# Altium footprint library Package_SO.PcbLib: 393 footprints (part 13 of 25)
Each footprint in its own frame and in the unit in brackets; x right, y up, seen from the top. Pads: shape width x height; smd on the part's side, far side on the other; paste and mask are expansions set on the pad; w line width, h text height; cw(c..) or ccw(c..) is an arc to the next point about the centre after c.
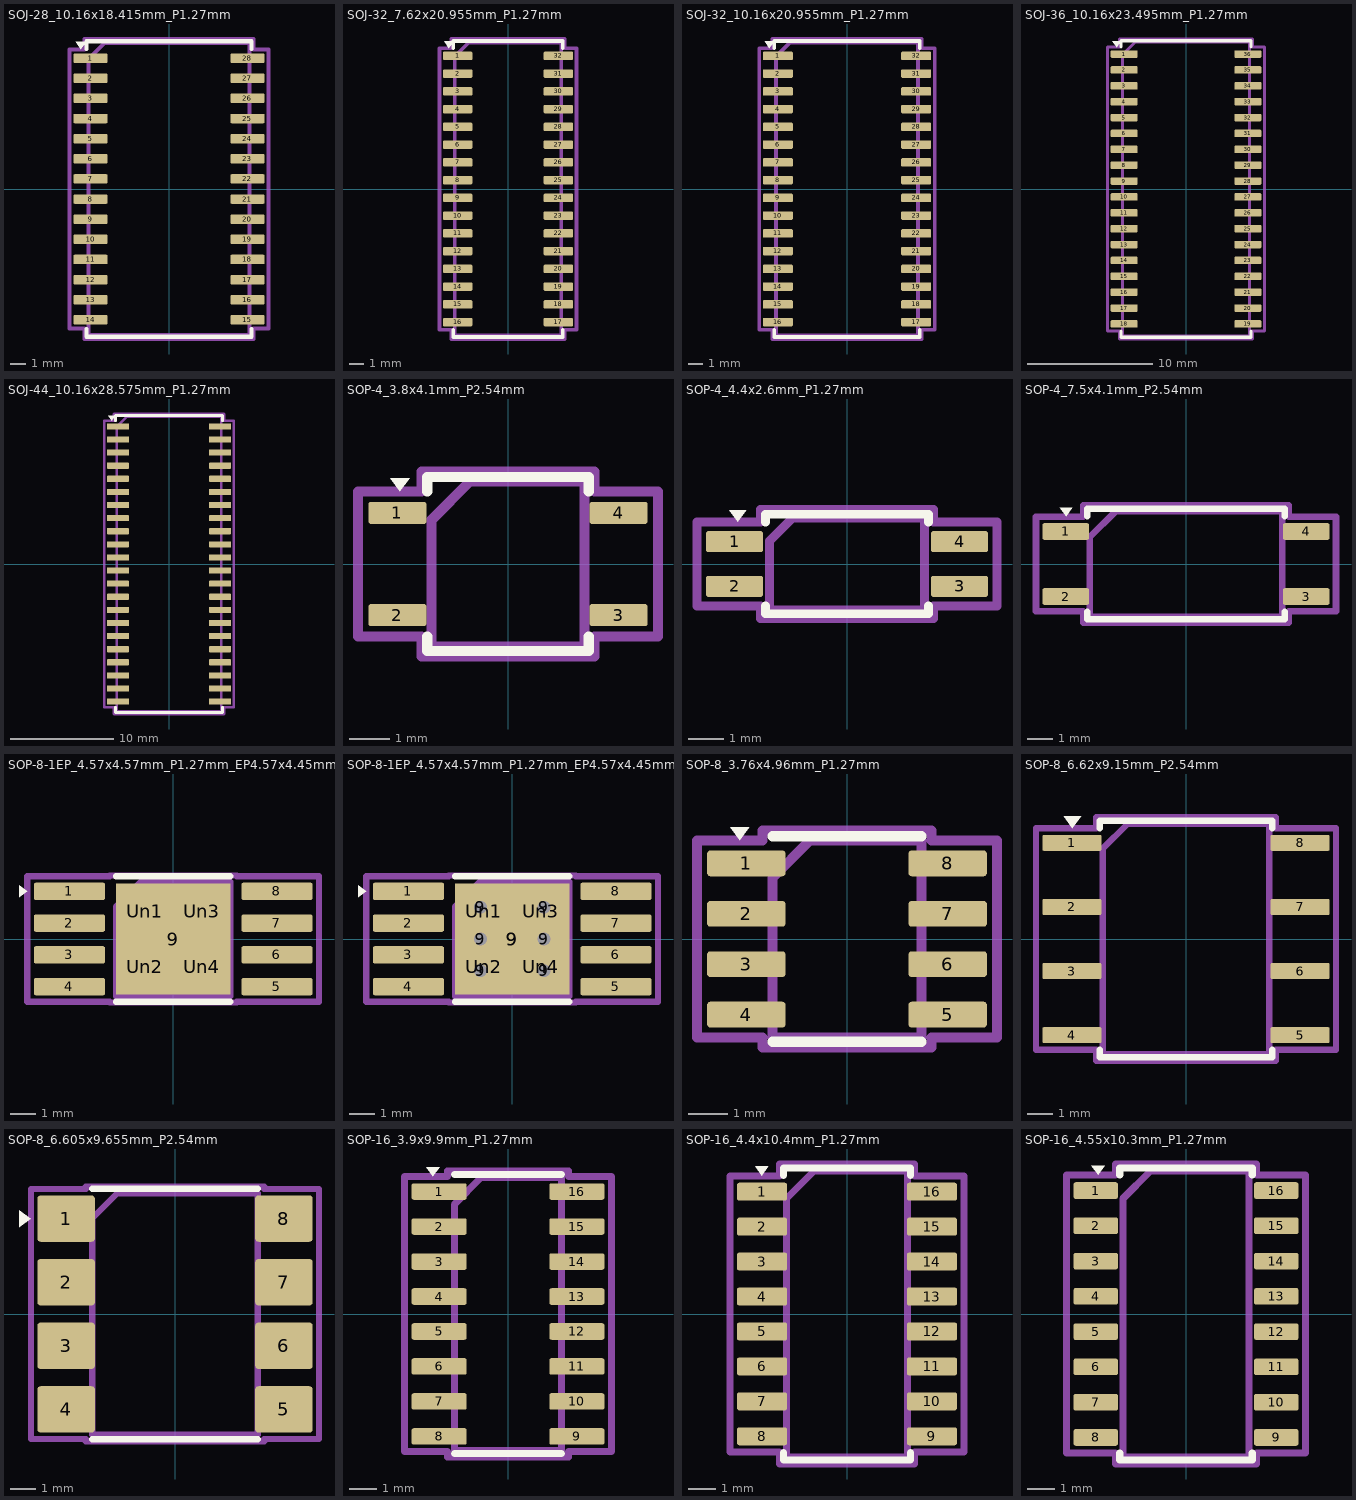
[diagram p12: the footprints below, top view; thin cyan lines are the x and y axes]

## SOJ-28_10.16x18.415mm_P1.27mm [mm]
pads (28):
  rrect25% 2.15x0.6 smd: 1(-4.95,8.255) 2(-4.95,6.985) 3(-4.95,5.715) 4(-4.95,4.445) 5(-4.95,3.175) 6(-4.95,1.905) 7(-4.95,0.635) 8(-4.95,-0.635) 9(-4.95,-1.905) 10(-4.95,-3.175) 11(-4.95,-4.445) 12(-4.95,-5.715) 13(-4.95,-6.985) 14(-4.95,-8.255) 15(4.95,-8.255) 16(4.95,-6.985) 17(4.95,-5.715) 18(4.95,-4.445) 19(4.95,-3.175) 20(4.95,-1.905) 21(4.95,-0.635) 22(4.95,0.635) 23(4.95,1.905) 24(4.95,3.175) 25(4.95,4.445) 26(4.95,5.715) 27(4.95,6.985) 28(4.95,8.255)
F.SilkS:
  region: -5.553,8.815 -5.893,9.285 -5.212,9.285
  lines w0.254: -5.19,-8.815 -5.19,-9.317 0,-9.317 5.19,-9.317 5.19,-8.815 ; -5.19,8.815 -5.19,9.317 0,9.317 5.19,9.317 5.19,8.815
Top Assembly:
  lines w0.254: -5.08,-9.207 5.08,-9.207 5.08,9.207 -4.08,9.207 -5.08,8.207 -5.08,-9.207
  text "'.Designator'" at -4.047,-0.84 h1
Top Courtyard:
  lines w0.254: -6.28,-8.81 -5.33,-8.81 -5.33,-9.46 5.33,-9.46 5.33,-8.81 6.28,-8.81 6.28,8.81 5.33,8.81 5.33,9.46 -5.33,9.46 -5.33,8.81 -6.28,8.81 -6.28,-8.81
Top Designator:
  text ".Designator" at -7.618,-0.508 h1.52

## SOJ-32_7.62x20.955mm_P1.27mm [mm]
pads (32):
  rrect25% 2.1x0.6 smd: 1(-3.6,9.525) 2(-3.6,8.255) 3(-3.6,6.985) 4(-3.6,5.715) 5(-3.6,4.445) 6(-3.6,3.175) 7(-3.6,1.905) 8(-3.6,0.635) 9(-3.6,-0.635) 10(-3.6,-1.905) 11(-3.6,-3.175) 12(-3.6,-4.445) 13(-3.6,-5.715) 14(-3.6,-6.985) 15(-3.6,-8.255) 16(-3.6,-9.525) 17(3.6,-9.525) 18(3.6,-8.255) 19(3.6,-6.985) 20(3.6,-5.715) 21(3.6,-4.445) 22(3.6,-3.175) 23(3.6,-1.905) 24(3.6,-0.635) 25(3.6,0.635) 26(3.6,1.905) 27(3.6,3.175) 28(3.6,4.445) 29(3.6,5.715) 30(3.6,6.985) 31(3.6,8.255) 32(3.6,9.525)
F.SilkS:
  region: -4.23,10.085 -4.57,10.555 -3.89,10.555
  lines w0.254: -3.92,-10.085 -3.92,-10.587 0,-10.587 3.92,-10.587 3.92,-10.085 ; -3.92,10.085 -3.92,10.587 0,10.587 3.92,10.587 3.92,10.085
Top Assembly:
  lines w0.254: -3.81,-10.477 3.81,-10.477 3.81,10.477 -2.81,10.477 -3.81,9.477 -3.81,-10.477
  text "'.Designator'" at -4.047,-0.84 h1
Top Courtyard:
  lines w0.254: -4.9,-10.08 -4.06,-10.08 -4.06,-10.73 4.06,-10.73 4.06,-10.08 4.9,-10.08 4.9,10.08 4.06,10.08 4.06,10.73 -4.06,10.73 -4.06,10.08 -4.9,10.08 -4.9,-10.08
Top Designator:
  text ".Designator" at -7.618,-0.508 h1.52

## SOJ-32_10.16x20.955mm_P1.27mm [mm]
pads (32):
  rrect25% 2.15x0.6 smd: 1(-4.95,9.525) 2(-4.95,8.255) 3(-4.95,6.985) 4(-4.95,5.715) 5(-4.95,4.445) 6(-4.95,3.175) 7(-4.95,1.905) 8(-4.95,0.635) 9(-4.95,-0.635) 10(-4.95,-1.905) 11(-4.95,-3.175) 12(-4.95,-4.445) 13(-4.95,-5.715) 14(-4.95,-6.985) 15(-4.95,-8.255) 16(-4.95,-9.525) 17(4.95,-9.525) 18(4.95,-8.255) 19(4.95,-6.985) 20(4.95,-5.715) 21(4.95,-4.445) 22(4.95,-3.175) 23(4.95,-1.905) 24(4.95,-0.635) 25(4.95,0.635) 26(4.95,1.905) 27(4.95,3.175) 28(4.95,4.445) 29(4.95,5.715) 30(4.95,6.985) 31(4.95,8.255) 32(4.95,9.525)
F.SilkS:
  region: -5.553,10.085 -5.893,10.555 -5.212,10.555
  lines w0.254: -5.19,-10.085 -5.19,-10.587 0,-10.587 5.19,-10.587 5.19,-10.085 ; -5.19,10.085 -5.19,10.587 0,10.587 5.19,10.587 5.19,10.085
Top Assembly:
  lines w0.254: -5.08,-10.477 5.08,-10.477 5.08,10.477 -4.08,10.477 -5.08,9.477 -5.08,-10.477
  text "'.Designator'" at -4.047,-0.84 h1
Top Courtyard:
  lines w0.254: -6.28,-10.08 -5.33,-10.08 -5.33,-10.73 5.33,-10.73 5.33,-10.08 6.28,-10.08 6.28,10.08 5.33,10.08 5.33,10.73 -5.33,10.73 -5.33,10.08 -6.28,10.08 -6.28,-10.08
Top Designator:
  text ".Designator" at -7.618,-0.508 h1.52

## SOJ-36_10.16x23.495mm_P1.27mm [mm]
pads (36):
  rrect25% 2.15x0.6 smd: 1(-4.95,10.795) 2(-4.95,9.525) 3(-4.95,8.255) 4(-4.95,6.985) 5(-4.95,5.715) 6(-4.95,4.445) 7(-4.95,3.175) 8(-4.95,1.905) 9(-4.95,0.635) 10(-4.95,-0.635) 11(-4.95,-1.905) 12(-4.95,-3.175) 13(-4.95,-4.445) 14(-4.95,-5.715) 15(-4.95,-6.985) 16(-4.95,-8.255) 17(-4.95,-9.525) 18(-4.95,-10.795) 19(4.95,-10.795) 20(4.95,-9.525) 21(4.95,-8.255) 22(4.95,-6.985) 23(4.95,-5.715) 24(4.95,-4.445) 25(4.95,-3.175) 26(4.95,-1.905) 27(4.95,-0.635) 28(4.95,0.635) 29(4.95,1.905) 30(4.95,3.175) 31(4.95,4.445) 32(4.95,5.715) 33(4.95,6.985) 34(4.95,8.255) 35(4.95,9.525) 36(4.95,10.795)
F.SilkS:
  region: -5.553,11.355 -5.893,11.825 -5.212,11.825
  lines w0.254: -5.19,-11.355 -5.19,-11.857 0,-11.857 5.19,-11.857 5.19,-11.355 ; -5.19,11.355 -5.19,11.857 0,11.857 5.19,11.857 5.19,11.355
Top Assembly:
  lines w0.254: -5.08,-11.747 5.08,-11.747 5.08,11.747 -4.08,11.747 -5.08,10.747 -5.08,-11.747
  text "'.Designator'" at -4.047,-0.84 h1
Top Courtyard:
  lines w0.254: -6.28,-11.35 -5.33,-11.35 -5.33,-12 5.33,-12 5.33,-11.35 6.28,-11.35 6.28,11.35 5.33,11.35 5.33,12 -5.33,12 -5.33,11.35 -6.28,11.35 -6.28,-11.35
Top Designator:
  text ".Designator" at -7.618,-0.508 h1.52

## SOJ-44_10.16x28.575mm_P1.27mm [mm]
pads (44):
  rrect25% 2.15x0.6 smd: 1(-4.95,13.335) 2(-4.95,12.065) 3(-4.95,10.795) 4(-4.95,9.525) 5(-4.95,8.255) 6(-4.95,6.985) 7(-4.95,5.715) 8(-4.95,4.445) 9(-4.95,3.175) 10(-4.95,1.905) 11(-4.95,0.635) 12(-4.95,-0.635) 13(-4.95,-1.905) 14(-4.95,-3.175) 15(-4.95,-4.445) 16(-4.95,-5.715) 17(-4.95,-6.985) 18(-4.95,-8.255) 19(-4.95,-9.525) 20(-4.95,-10.795) 21(-4.95,-12.065) 22(-4.95,-13.335) 23(4.95,-13.335) 24(4.95,-12.065) 25(4.95,-10.795) 26(4.95,-9.525) 27(4.95,-8.255) 28(4.95,-6.985) 29(4.95,-5.715) 30(4.95,-4.445) 31(4.95,-3.175) 32(4.95,-1.905) 33(4.95,-0.635) 34(4.95,0.635) 35(4.95,1.905) 36(4.95,3.175) 37(4.95,4.445) 38(4.95,5.715) 39(4.95,6.985) 40(4.95,8.255) 41(4.95,9.525) 42(4.95,10.795) 43(4.95,12.065) 44(4.95,13.335)
F.SilkS:
  region: -5.553,13.895 -5.893,14.365 -5.212,14.365
  lines w0.254: -5.19,-13.895 -5.19,-14.397 0,-14.397 5.19,-14.397 5.19,-13.895 ; -5.19,13.895 -5.19,14.397 0,14.397 5.19,14.397 5.19,13.895
Top Assembly:
  lines w0.254: -5.08,-14.287 5.08,-14.287 5.08,14.287 -4.08,14.287 -5.08,13.287 -5.08,-14.287
  text "'.Designator'" at -4.047,-0.84 h1
Top Courtyard:
  lines w0.254: -6.28,-13.89 -5.33,-13.89 -5.33,-14.54 5.33,-14.54 5.33,-13.89 6.28,-13.89 6.28,13.89 5.33,13.89 5.33,14.54 -5.33,14.54 -5.33,13.89 -6.28,13.89 -6.28,-13.89
Top Designator:
  text ".Designator" at -7.618,-0.508 h1.52

## SOP-4_3.8x4.1mm_P2.54mm [mm]
pads (4):
  rrect25% 1.45x0.55 smd: 1(-2.75,1.27) 2(-2.75,-1.27) 3(2.75,-1.27) 4(2.75,1.27)
F.SilkS:
  region: -2.688,1.805 -2.927,2.135 -2.448,2.135
  lines w0.254: -2.01,-1.805 -2.01,-2.16 0,-2.16 2.01,-2.16 2.01,-1.805 ; -2.01,1.805 -2.01,2.16 0,2.16 2.01,2.16 2.01,1.805
Top Assembly:
  lines w0.254: -1.9,-2.05 1.9,-2.05 1.9,2.05 -0.95,2.05 -1.9,1.1 -1.9,-2.05
  text "'.Designator'" at -3.842,-0.796 h0.95
Top Courtyard:
  lines w0.254: -3.73,-1.8 -2.15,-1.8 -2.15,-2.3 2.15,-2.3 2.15,-1.8 3.73,-1.8 3.73,1.8 2.15,1.8 2.15,2.3 -2.15,2.3 -2.15,1.8 -3.73,1.8 -3.73,-1.8
Top Designator:
  text ".Designator" at -7.68,-0.508 h1.52

## SOP-4_4.4x2.6mm_P1.27mm [mm]
pads (4):
  rrect25% 1.625x0.6 smd: 1(-3.187,0.635) 2(-3.187,-0.635) 3(3.187,-0.635) 4(3.187,0.635)
F.SilkS:
  region: -3.1,1.195 -3.34,1.525 -2.86,1.525
  lines w0.254: -2.31,-1.195 -2.31,-1.41 0,-1.41 2.31,-1.41 2.31,-1.195 ; -2.31,1.195 -2.31,1.41 0,1.41 2.31,1.41 2.31,1.195
Top Assembly:
  lines w0.254: -2.2,-1.3 2.2,-1.3 2.2,1.3 -1.55,1.3 -2.2,0.65 -2.2,-1.3
  text "'.Designator'" at -4.047,-0.84 h1
Top Courtyard:
  lines w0.254: -4.25,-1.19 -2.45,-1.19 -2.45,-1.55 2.45,-1.55 2.45,-1.19 4.25,-1.19 4.25,1.19 2.45,1.19 2.45,1.55 -2.45,1.55 -2.45,1.19 -4.25,1.19 -4.25,-1.19
Top Designator:
  text ".Designator" at -7.618,-0.508 h1.52

## SOP-4_7.5x4.1mm_P2.54mm [mm]
pads (4):
  rrect25% 1.825x0.65 smd: 1(-4.687,1.27) 2(-4.687,-1.27) 3(4.687,-1.27) 4(4.687,1.27)
F.SilkS:
  region: -4.675,1.855 -4.915,2.185 -4.435,2.185
  lines w0.254: -3.86,-1.855 -3.86,-2.16 0,-2.16 3.86,-2.16 3.86,-1.855 ; -3.86,1.855 -3.86,2.16 0,2.16 3.86,2.16 3.86,1.855
Top Assembly:
  lines w0.254: -3.75,-2.05 3.75,-2.05 3.75,2.05 -2.75,2.05 -3.75,1.05 -3.75,-2.05
  text "'.Designator'" at -4.047,-0.84 h1
Top Courtyard:
  lines w0.254: -5.85,-1.85 -4,-1.85 -4,-2.3 4,-2.3 4,-1.85 5.85,-1.85 5.85,1.85 4,1.85 4,2.3 -4,2.3 -4,1.85 -5.85,1.85 -5.85,-1.85
Top Designator:
  text ".Designator" at -7.618,-0.508 h1.52

## SOP-8-1EP_4.57x4.57mm_P1.27mm_EP4.57x4.45mm [mm]
pads (13):
  rrect25% 2.85x0.7 smd: 1(-4.15,1.905) 2(-4.15,0.635) 3(-4.15,-0.635) 4(-4.15,-1.905) 5(4.15,-1.905) 6(4.15,-0.635) 7(4.15,0.635) 8(4.15,1.905)
  rect 4.57x4.45 smd: 9(0,0)
  rrect14% 1.84x1.79 on Top Paste: Un1(-1.14,1.11) Un2(-1.14,-1.11) Un3(1.14,1.11) Un4(1.14,-1.11)
F.SilkS:
  region: -5.835,1.905 -6.165,1.665 -6.165,2.145
  lines w0.254: -2.285,-2.515 0,-2.515 2.285,-2.515 ; -2.285,2.515 0,2.515 2.285,2.515
Top Assembly:
  lines w0.254: -2.285,-2.285 2.285,-2.285 2.285,2.285 -1.285,2.285 -2.285,1.285 -2.285,-2.285
  text "'.Designator'" at -4.047,-0.84 h1
Top Courtyard:
  lines w0.254: -5.83,-2.51 -2.54,-2.51 -2.54,-2.54 2.54,-2.54 2.54,-2.51 5.83,-2.51 5.83,2.51 2.54,2.51 2.54,2.54 -2.54,2.54 -2.54,2.51 -5.83,2.51 -5.83,-2.51
Top Designator:
  text ".Designator" at -7.722,-0.508 h1.52

## SOP-8-1EP_4.57x4.57mm_P1.27mm_EP4.57x4.45mm_ThermalVias [mm]
pads (20):
  rrect25% 2.85x0.7 smd: 1(-4.15,1.905) 2(-4.15,0.635) 3(-4.15,-0.635) 4(-4.15,-1.905) 5(4.15,-1.905) 6(4.15,-0.635) 7(4.15,0.635) 8(4.15,1.905)
  round 0.81 hole 0.51: 9(-1.27,-1.27) 9(-1.27,0) 9(-1.27,1.27) 9(1.27,-1.27) 9(1.27,0) 9(1.27,1.27)
  rect 4.57x4.45 smd: 9(0,0)
  rect 3.35x3.35 smd far side: 9(0,0)
  rrect13% 1.91x1.86 on Top Paste: Un1(-1.14,1.11) Un2(-1.14,-1.11) Un3(1.14,1.11) Un4(1.14,-1.11)
F.SilkS:
  region: -5.835,1.905 -6.165,1.665 -6.165,2.145
  lines w0.254: -2.285,-2.515 0,-2.515 2.285,-2.515 ; -2.285,2.515 0,2.515 2.285,2.515
Top Assembly:
  lines w0.254: -2.285,-2.285 2.285,-2.285 2.285,2.285 -1.285,2.285 -2.285,1.285 -2.285,-2.285
  text "'.Designator'" at -4.047,-0.84 h1
Top Courtyard:
  lines w0.254: -5.83,-2.51 -2.54,-2.51 -2.54,-2.54 2.54,-2.54 2.54,-2.51 5.83,-2.51 5.83,2.51 2.54,2.51 2.54,2.54 -2.54,2.54 -2.54,2.51 -5.83,2.51 -5.83,-2.51
Top Designator:
  text ".Designator" at -7.722,-0.508 h1.52

## SOP-8_3.76x4.96mm_P1.27mm [mm]
pads (8):
  rrect25% 1.975x0.65 smd: 1(-2.538,1.905) 2(-2.538,0.635) 3(-2.538,-0.635) 4(-2.538,-1.905) 5(2.538,-1.905) 6(2.538,-0.635) 7(2.538,0.635) 8(2.538,1.905)
F.SilkS:
  region: -2.702,2.49 -2.943,2.82 -2.462,2.82
  lines w0.254: -1.88,-2.59 0,-2.59 1.88,-2.59 ; -1.88,2.59 0,2.59 1.88,2.59
Top Assembly:
  lines w0.254: -1.88,-2.48 1.88,-2.48 1.88,2.48 -0.94,2.48 -1.88,1.54 -1.88,-2.48
  text "'.Designator'" at -3.803,-0.789 h0.94
Top Courtyard:
  lines w0.254: -3.78,-2.48 -2.13,-2.48 -2.13,-2.73 2.13,-2.73 2.13,-2.48 3.78,-2.48 3.78,2.48 2.13,2.48 2.13,2.73 -2.13,2.73 -2.13,2.48 -3.78,2.48 -3.78,-2.48
Top Designator:
  text ".Designator" at -7.636,-0.508 h1.52

## SOP-8_6.62x9.15mm_P2.54mm [mm]
pads (8):
  rrect25% 2.35x0.65 smd: 1(-4.525,3.81) 2(-4.525,1.27) 3(-4.525,-1.27) 4(-4.525,-3.81) 5(4.525,-3.81) 6(4.525,-1.27) 7(4.525,1.27) 8(4.525,3.81)
F.SilkS:
  region: -4.505,4.395 -4.845,4.865 -4.165,4.865
  lines w0.254: -3.42,-4.395 -3.42,-4.685 0,-4.685 3.42,-4.685 3.42,-4.395 ; -3.42,4.395 -3.42,4.685 0,4.685 3.42,4.685 3.42,4.395
Top Assembly:
  lines w0.254: -3.31,-4.575 3.31,-4.575 3.31,4.575 -2.31,4.575 -3.31,3.575 -3.31,-4.575
  text "'.Designator'" at -4.047,-0.84 h1
Top Courtyard:
  lines w0.254: -5.95,-4.39 -3.56,-4.39 -3.56,-4.83 3.56,-4.83 3.56,-4.39 5.95,-4.39 5.95,4.39 3.56,4.39 3.56,4.83 -3.56,4.83 -3.56,4.39 -5.95,4.39 -5.95,-4.39
Top Designator:
  text ".Designator" at -7.618,-0.508 h1.52

## SOP-8_6.605x9.655mm_P2.54mm [mm]
pads (8):
  rrect14% 2.3x1.85 smd: 1(-4.35,3.81) 2(-4.35,1.27) 3(-4.35,-1.27) 4(-4.35,-3.81) 5(4.35,-3.81) 6(4.35,-1.27) 7(4.35,1.27) 8(4.35,3.81)
F.SilkS:
  region: -5.76,3.81 -6.23,3.47 -6.23,4.15
  lines w0.254: -3.303,-4.995 0,-4.995 3.303,-4.995 ; -3.303,4.995 0,4.995 3.303,4.995
Top Assembly:
  lines w0.254: -3.303,-4.828 3.303,-4.828 3.303,4.828 -2.302,4.828 -3.303,3.828 -3.303,-4.828
  text "'.Designator'" at -4.047,-0.84 h1
Top Courtyard:
  lines w0.254: -5.75,-4.99 -3.56,-4.99 -3.56,-5.08 3.56,-5.08 3.56,-4.99 5.75,-4.99 5.75,4.99 3.56,4.99 3.56,5.08 -3.56,5.08 -3.56,4.99 -5.75,4.99 -5.75,-4.99
Top Designator:
  text ".Designator" at -7.794,-0.508 h1.52

## SOP-16_3.9x9.9mm_P1.27mm [mm]
pads (16):
  rrect25% 2x0.6 smd: 1(-2.5,4.445) 2(-2.5,3.175) 3(-2.5,1.905) 4(-2.5,0.635) 5(-2.5,-0.635) 6(-2.5,-1.905) 7(-2.5,-3.175) 8(-2.5,-4.445) 9(2.5,-4.445) 10(2.5,-3.175) 11(2.5,-1.905) 12(2.5,-0.635) 13(2.5,0.635) 14(2.5,1.905) 15(2.5,3.175) 16(2.5,4.445)
F.SilkS:
  region: -2.725,5.005 -2.965,5.335 -2.485,5.335
  lines w0.254: -1.95,-5.06 0,-5.06 1.95,-5.06 ; -1.95,5.06 0,5.06 1.95,5.06
Top Assembly:
  lines w0.254: -1.95,-4.95 1.95,-4.95 1.95,4.95 -0.975,4.95 -1.95,3.975 -1.95,-4.95
  text "'.Designator'" at -3.969,-0.827 h0.98
Top Courtyard:
  lines w0.254: -3.75,-5 -2.2,-5 -2.2,-5.2 2.2,-5.2 2.2,-5 3.75,-5 3.75,5 2.2,5 2.2,5.2 -2.2,5.2 -2.2,5 -3.75,5 -3.75,-5
Top Designator:
  text ".Designator" at -7.738,-0.504 h1.52

## SOP-16_4.4x10.4mm_P1.27mm [mm]
pads (16):
  rrect25% 1.825x0.65 smd: 1(-3.087,4.445) 2(-3.087,3.175) 3(-3.087,1.905) 4(-3.087,0.635) 5(-3.087,-0.635) 6(-3.087,-1.905) 7(-3.087,-3.175) 8(-3.087,-4.445) 9(3.087,-4.445) 10(3.087,-3.175) 11(3.087,-1.905) 12(3.087,-0.635) 13(3.087,0.635) 14(3.087,1.905) 15(3.087,3.175) 16(3.087,4.445)
F.SilkS:
  region: -3.1,5.03 -3.34,5.36 -2.86,5.36
  lines w0.254: -2.31,-5.03 -2.31,-5.31 0,-5.31 2.31,-5.31 2.31,-5.03 ; -2.31,5.03 -2.31,5.31 0,5.31 2.31,5.31 2.31,5.03
Top Assembly:
  lines w0.254: -2.2,-5.2 2.2,-5.2 2.2,5.2 -1.2,5.2 -2.2,4.2 -2.2,-5.2
  text "'.Designator'" at -4.047,-0.84 h1
Top Courtyard:
  lines w0.254: -4.25,-5.02 -2.45,-5.02 -2.45,-5.45 2.45,-5.45 2.45,-5.02 4.25,-5.02 4.25,5.02 2.45,5.02 2.45,5.45 -2.45,5.45 -2.45,5.02 -4.25,5.02 -4.25,-5.02
Top Designator:
  text ".Designator" at -7.618,-0.508 h1.52

## SOP-16_4.55x10.3mm_P1.27mm [mm]
pads (16):
  rrect25% 1.6x0.6 smd: 1(-3.25,4.445) 2(-3.25,3.175) 3(-3.25,1.905) 4(-3.25,0.635) 5(-3.25,-0.635) 6(-3.25,-1.905) 7(-3.25,-3.175) 8(-3.25,-4.445) 9(3.25,-4.445) 10(3.25,-3.175) 11(3.25,-1.905) 12(3.25,-0.635) 13(3.25,0.635) 14(3.25,1.905) 15(3.25,3.175) 16(3.25,4.445)
F.SilkS:
  region: -3.163,5.005 -3.403,5.335 -2.923,5.335
  lines w0.254: -2.385,-5.005 -2.385,-5.26 0,-5.26 2.385,-5.26 2.385,-5.005 ; -2.385,5.005 -2.385,5.26 0,5.26 2.385,5.26 2.385,5.005
Top Assembly:
  lines w0.254: -2.275,-5.15 2.275,-5.15 2.275,5.15 -1.275,5.15 -2.275,4.15 -2.275,-5.15
  text "'.Designator'" at -4.047,-0.84 h1
Top Courtyard:
  lines w0.254: -4.3,-5 -2.53,-5 -2.53,-5.4 2.53,-5.4 2.53,-5 4.3,-5 4.3,5 2.53,5 2.53,5.4 -2.53,5.4 -2.53,5 -4.3,5 -4.3,-5
Top Designator:
  text ".Designator" at -7.618,-0.508 h1.52